# Altium schematic symbol library RELAY 5V.SchLib: 14 symbols
Pins are listed as number, name and electrical type; pins without a type are passive.

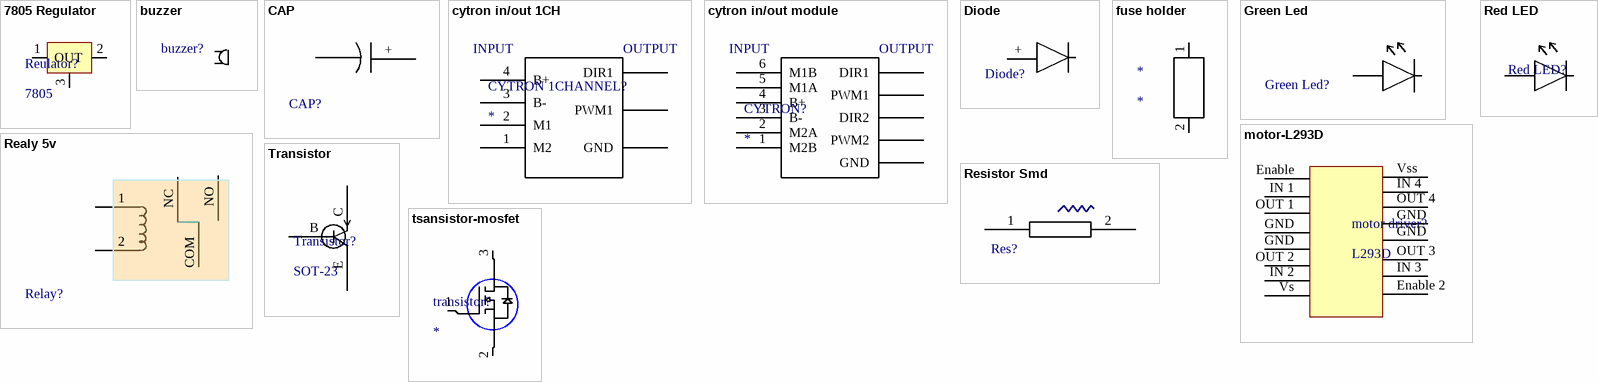
[diagram p0: symbols 7805 Regulator to tsansistor-mosfet]

## 7805 Regulator
designator Reulator?, comment 7805
footprint 7805 REGULATOR
pins: 1 IN, 2 OUT, 3 BASE

## buzzer
designator buzzer?  (value not drawn)
Magnetic NO 2700Hz 85dB @ 3V, 10cm 3V Φ9mm SMD Buzzers RoHS; created by: mohamed abdelsalam; chain Rule: https://lcsc.com/product-detail/Buzzers_FUET-FST-9045_C391040.html; Data Sheet: https://datasheet.lcsc.com/szlcsc/1912111437_FUET-FUET-9045_C391040.pdf
footprint Buzzer
pins: +, -

## CAP
designator CAP?  (value not drawn)
Radial,16x25mm Aluminum Electrolytic Capacitors - Leaded RoHS; Chain Rule: https://lcsc.com/product-detail/Aluminum-Electrolytic-Capacitors-Leaded_Samwha-Capacitor-SD2W336M16025PA_C528715.html; Data Sheet: https://datasheet.lcsc.com/szlcsc/2006161532_Samwha-Capacitor-SD2W336M16025PA_C528715.pdf
footprint CAP
pins: 1, + 2

## cytron in/out 1CH
designator CYTRON 1CHANNEL?
footprint cytron in/out 1CH
pins: 1 M2, 2 M1, 3 B-, 4 B+, 5 DIR1, 6 PWM1, 7 GND
text: INPUT; OUTPUT

## cytron in/out module
designator CYTRON?
footprint cytron in/out module
pins: 1 M2B, 2 M2A, 3 B-, 4 B+, 5 M1A, 6 M1B, 7 DIR1, 8 PWM1, 9 DIR2, 10 PWM2, 11 GND
text: INPUT; OUTPUT

## Diode
designator Diode?  (value not drawn)
400V 1A 1.3V @ 1A SMA Diodes; Supply chain: https://lcsc.com/product-detail/Diodes-General-Purpose_SMC-Sangdest-Microelectronicstronic-Nanjing-RS1G_C260336.html; Data sheet: https://datasheet.lcsc.com/szlcsc/1811061043_SMC-Sangdest-Microelectronicstronic-Nanjing-RS1G_C260336.pdf; Created By: Mohamed abdela=salam
footprint DIOC4426X30N (Chip Diode, 2-Leads, Body 4.37x2.62mm, IPC Medium Density)
pins: 2, + Anode

## fuse holder
designator *
footprint fuse Holder
pins: 1, 2

## Green Led
designator Green Led?  (value not drawn)
Through Hole Light Emitting Diodes (LED) RoHS; Supply chain: https://lcsc.com/product-detail/Light-Emitting-Diodes-LED_TOGIALED-TJ-L3FYTLDKMCGSFLC7K-A5_C440524.html; Data sheet: https://datasheet.lcsc.com/szlcsc/1912111437_TOGIALED-TJ-L3FYTLDKMCGSFLC7K-A5_C440524.pdf; Created By: Mohamed abdelsalam
footprint LED Green
pins: 1, 2
1 alternate drawing of the same symbol

## motor-L293D
designator motor driver?, comment L293D
DIP-16 Motor Drivers RoHS; supply chain: https://lcsc.com/product-detail/Motor-Drivers_STMicroelectronics_L293D_L293D_C12340.html; Data sheet: https://datasheet.lcsc.com/szlcsc/1811151537_STMicroelectronics-L293D_C12340.pdf
footprint L293D
pins: Enable, Enable 2, GND, GND, GND, GND, IN 1, IN 2, IN 3 IN 3 , IN 4, OUT 1, OUT 2, OUT 3, OUT 4, Vs, Vss

## Realy 5v
designator Relay?  (value not drawn)
General Purpose Non Latching 24VDC SPDT Through Hole Relays RoHS; Supply Chain: https://www.3dcontentcentral.com/secure/download-model.aspx?catalogid=171&id=871297; Data Sheet: https://datasheet.lcsc.com/szlcsc/1809211229_SANYOU-RELAYS-SRD-S-124D_C276435.pdf; created By: mohamed abdelsalam; Data: 3-10-2020
footprint Relay 5v
pins: 1 coil1, 2 coil2, COM, NC, NO

## Red LED
designator Red LED?  (value not drawn)
Data sheet: https://datasheet.lcsc.com/szlcsc/1912111437_TOGIALED-TJ-L3FYTLDKMCGSFLC7K-A5_C440524.pdf; Created By: Mohamed abdelsalam; Supply Chain: https://lcsc.com/product-detail/Light-Emitting-Diodes-LED_TOGIALED-TJ-L3FYTLDKMCGSFLC7K-A5_C440524.html
footprint LED Red
pins: 1, 2

## Resistor Smd
designator Res?  (value not drawn)
10kΩ ±1% 0.1W ±100ppm/℃ 0603 Chip Resistor; Supply Chain: https://lcsc.com/product-detail/Chip-Resistor-Surface-Mount_10KR-1002-1_C98220.html; Data sheet: https://datasheet.lcsc.com/szlcsc/1811101934_YAGEO-RC0603FR-0710KL_C98220.pdf; Created By: mohamed abdelsalam
footprint 0603 Resistor (Chip Resistor, 2-Leads, Body 1.60x0.80mm, IPC Medium Density)
pins: 1, 2

## Transistor
designator Transistor?, comment SOT-23
PNP - Pre-Biased 500mA 50V 200mW SOT-23(SOT-23-3); Supply chain: https://lcsc.com/product-detail/Others_SANYOU-RELAYS-SRD-S-124D_C276435.html; Data sheet: https://datasheet.lcsc.com/szlcsc/1809211229_SANYOU-RELAYS-SRD-S-124D_C276435.pdf; Created By: mohamed abdelsalam
footprint Transistor Smd - duplicate (TO, 4-Pads, Body 4.00x4.86mm (max), IPC Medium Density)
pins: B, C, E

## tsansistor-mosfet
designator transistor?
Data sheet: https://datasheet.lcsc.com/szlcsc/1809111720_ON-Semiconductor-FQPF9N25C_C10444.pdf; supply chain: https://lcsc.com/product-detail/MOSFET_ON-Semiconductor-ON-FQPF9N25C_C10444.html
footprint transistor -mosfet
pins: 1, 2, 3